# Altium schematic symbol library 7.1 - 模拟符号.SCHLIB: 83 symbols
Pins are listed as number, name and electrical type; pins without a type are passive.

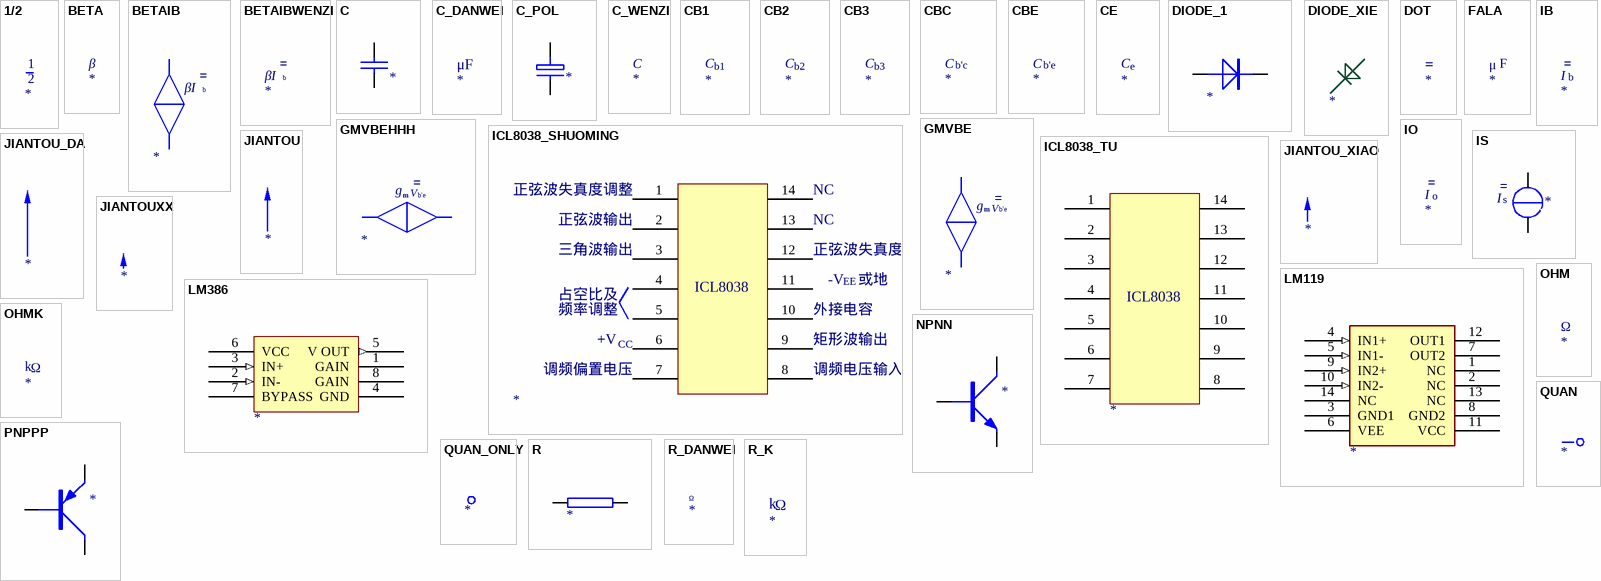
[diagram p0: symbols 1/2 to R_K]

## 1/2
designator ?
技术支持，联系售后: 封装库来自淘宝 ID：黄晶宝石; 联系卖家，免费查找封装: 唯一出售店铺网址https://shop463601444.taobao.com
text: 1; 2

## BETA
designator ?
联系卖家，免费查找封装: 唯一出售店铺网址https://shop463601444.taobao.com
text: β

## BETAIB
designator ?
联系卖家，免费查找封装: 唯一出售店铺网址https://shop463601444.taobao.com
text: βI; b

## BETAIBWENZI
designator ?
联系卖家，免费查找封装: 唯一出售店铺网址https://shop463601444.taobao.com
text: βI; b

## C
designator ?
联系卖家，免费查找封装: 唯一出售店铺网址https://shop463601444.taobao.com
pins: 1, 2

## C_DANWEI
designator ?
联系卖家，免费查找封装: 唯一出售店铺网址https://shop463601444.taobao.com
text: μF

## C_POL
designator ?
联系卖家，免费查找封装: 唯一出售店铺网址https://shop463601444.taobao.com
pins: 1, 2

## C_WENZI
designator ?
联系卖家，免费查找封装: 唯一出售店铺网址https://shop463601444.taobao.com
text: C

## CB1
designator ?
联系卖家，免费查找封装: 唯一出售店铺网址https://shop463601444.taobao.com
text: C; b1

## CB2
designator ?
联系卖家，免费查找封装: 唯一出售店铺网址https://shop463601444.taobao.com
text: C; b2

## CB3
designator ?
联系卖家，免费查找封装: 唯一出售店铺网址https://shop463601444.taobao.com
text: C; b3

## CBC
designator ?
联系卖家，免费查找封装: 唯一出售店铺网址https://shop463601444.taobao.com
text: C; b'c

## CBE
designator ?
联系卖家，免费查找封装: 唯一出售店铺网址https://shop463601444.taobao.com
text: C; b'e

## CE
designator ?
联系卖家，免费查找封装: 唯一出售店铺网址https://shop463601444.taobao.com
text: C; e

## DIODE_1
designator ?
联系卖家，免费查找封装: 唯一出售店铺网址https://shop463601444.taobao.com
pins: 1 A, 2 K

## DIODE_XIE
designator ?
联系卖家，免费查找封装: 唯一出售店铺网址https://shop463601444.taobao.com

## DOT
designator ?
联系卖家，免费查找封装: 唯一出售店铺网址https://shop463601444.taobao.com

## FALA
designator ?
联系卖家，免费查找封装: 唯一出售店铺网址https://shop463601444.taobao.com
text: F; μ

## GMVBE
designator ?
联系卖家，免费查找封装: 唯一出售店铺网址https://shop463601444.taobao.com
text: g; m; V; b'e

## GMVBEHHH
designator ?
联系卖家，免费查找封装: 唯一出售店铺网址https://shop463601444.taobao.com
text: g; m; V; b'e

## IB
designator ?
联系卖家，免费查找封装: 唯一出售店铺网址https://shop463601444.taobao.com
text: I; b

## ICL8038_SHUOMING
designator ?
联系卖家，免费查找封装: 唯一出售店铺网址https://shop463601444.taobao.com
pins: 1 74, 2 75, 3 76, 4 77, 5 78, 6 79, 7 80, 8 81, 9 82, 10 83, 11 84, 12 85, 13 86, 14 87
text: 正弦波失真度调整; NC; 正弦波输出; 三角波输出; -V; EE; 或地; ICL8038; 占空比及; 频率调整; 外接电容; +V; CC; 矩形波输出; 调频偏置电压; 调频电压输入端

## ICL8038_TU
designator ?
联系卖家，免费查找封装: 唯一出售店铺网址https://shop463601444.taobao.com
pins: 1 74, 2 75, 3 76, 4 77, 5 78, 6 79, 7 80, 8 81, 9 82, 10 83, 11 84, 12 85, 13 86, 14 87
text: ICL8038

## IO
designator ?
联系卖家，免费查找封装: 唯一出售店铺网址https://shop463601444.taobao.com
text: I; o

## IS
designator ?
联系卖家，免费查找封装: 唯一出售店铺网址https://shop463601444.taobao.com
pins: 1, 2
text: I; s

## JIANTOU
designator ?
联系卖家，免费查找封装: 唯一出售店铺网址https://shop463601444.taobao.com

## JIANTOU_DA
designator ?
联系卖家，免费查找封装: 唯一出售店铺网址https://shop463601444.taobao.com

## JIANTOU_XIAO
designator ?
联系卖家，免费查找封装: 唯一出售店铺网址https://shop463601444.taobao.com

## JIANTOUXX
designator ?
联系卖家，免费查找封装: 唯一出售店铺网址https://shop463601444.taobao.com

## LM119
designator ?
联系卖家，免费查找封装: 唯一出售店铺网址https://shop463601444.taobao.com
pins: 1 NC, 2 NC, 3 GND1 (power), 4 IN1+ (in), 5 IN1- (in), 6 VEE (power), 7 OUT2 (oc), 8 GND2 (power), 9 IN2+ (in), 10 IN2- (in), 11 VCC (power), 12 OUT1 (oc), 13 NC, 14 NC

## LM386
designator ?
联系卖家，免费查找封装: 唯一出售店铺网址https://shop463601444.taobao.com
pins: 1 GAIN, 2 IN- (in), 3 IN+ (in), 4 GND (power), 5 V OUT (out), 6 VCC, 7 BYPASS, 8 GAIN

## NPNN
designator ?
联系卖家，免费查找封装: 唯一出售店铺网址https://shop463601444.taobao.com
pins: 1 B, 2 C, 3 E

## OHM
designator ?
联系卖家，免费查找封装: 唯一出售店铺网址https://shop463601444.taobao.com
text: Ω

## OHMK
designator ?
联系卖家，免费查找封装: 唯一出售店铺网址https://shop463601444.taobao.com
text: k; Ω

## PNPPP
designator ?
联系卖家，免费查找封装: 唯一出售店铺网址https://shop463601444.taobao.com
pins: 1 B, 2 E, 3 C

## QUAN
designator ?
联系卖家，免费查找封装: 唯一出售店铺网址https://shop463601444.taobao.com

## QUAN_ONLY
designator ?
联系卖家，免费查找封装: 唯一出售店铺网址https://shop463601444.taobao.com

## R
designator ?
联系卖家，免费查找封装: 唯一出售店铺网址https://shop463601444.taobao.com
pins: 1, 2

## R_DANWEI
designator ?
联系卖家，免费查找封装: 唯一出售店铺网址https://shop463601444.taobao.com
text: Ω

## R_K
designator ?
联系卖家，免费查找封装: 唯一出售店铺网址https://shop463601444.taobao.com
text: k; Ω

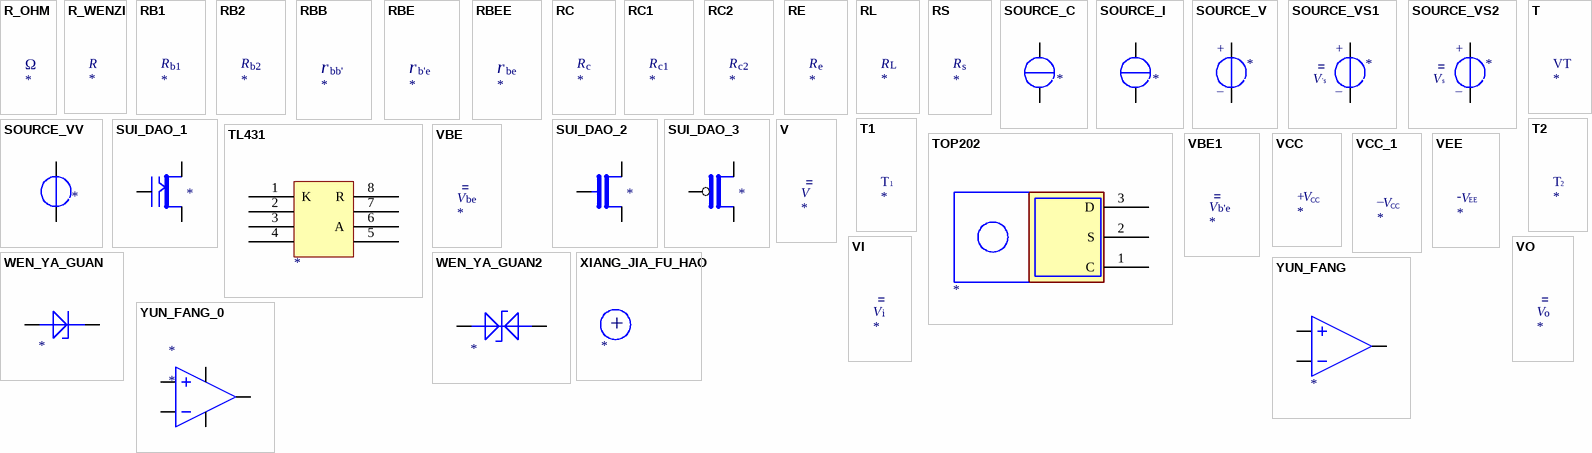
[diagram p1: symbols R_OHM to YUN_FANG_0]

## R_OHM
designator ?
联系卖家，免费查找封装: 唯一出售店铺网址https://shop463601444.taobao.com
text: Ω

## R_WENZI
designator ?
联系卖家，免费查找封装: 唯一出售店铺网址https://shop463601444.taobao.com
text: R

## RB1
designator ?
联系卖家，免费查找封装: 唯一出售店铺网址https://shop463601444.taobao.com
text: R; b1

## RB2
designator ?
联系卖家，免费查找封装: 唯一出售店铺网址https://shop463601444.taobao.com
text: R; b2

## RBB
designator ?
联系卖家，免费查找封装: 唯一出售店铺网址https://shop463601444.taobao.com
text: r; bb'

## RBE
designator ?
联系卖家，免费查找封装: 唯一出售店铺网址https://shop463601444.taobao.com
text: r; b'e

## RBEE
designator ?
联系卖家，免费查找封装: 唯一出售店铺网址https://shop463601444.taobao.com
text: r; be

## RC
designator ?
联系卖家，免费查找封装: 唯一出售店铺网址https://shop463601444.taobao.com
text: R; c

## RC1
designator ?
联系卖家，免费查找封装: 唯一出售店铺网址https://shop463601444.taobao.com
text: R; c1

## RC2
designator ?
联系卖家，免费查找封装: 唯一出售店铺网址https://shop463601444.taobao.com
text: R; c2

## RE
designator ?
联系卖家，免费查找封装: 唯一出售店铺网址https://shop463601444.taobao.com
text: R; e

## RL
designator ?
联系卖家，免费查找封装: 唯一出售店铺网址https://shop463601444.taobao.com
text: R; L

## RS
designator ?
联系卖家，免费查找封装: 唯一出售店铺网址https://shop463601444.taobao.com
text: R; s

## SOURCE_C
designator ?
联系卖家，免费查找封装: 唯一出售店铺网址https://shop463601444.taobao.com
pins: 1, 2

## SOURCE_I
designator ?
联系卖家，免费查找封装: 唯一出售店铺网址https://shop463601444.taobao.com
pins: 1, 2

## SOURCE_V
designator ?
联系卖家，免费查找封装: 唯一出售店铺网址https://shop463601444.taobao.com
pins: 1, 2
text: +; _

## SOURCE_VS1
designator ?
联系卖家，免费查找封装: 唯一出售店铺网址https://shop463601444.taobao.com
pins: 1, 2
text: +; V; 's; _

## SOURCE_VS2
designator ?
联系卖家，免费查找封装: 唯一出售店铺网址https://shop463601444.taobao.com
pins: 1, 2
text: +; V; s; _

## SOURCE_VV
designator ?
联系卖家，免费查找封装: 唯一出售店铺网址https://shop463601444.taobao.com
pins: 1, 2

## SUI_DAO_1
designator ?
联系卖家，免费查找封装: 唯一出售店铺网址https://shop463601444.taobao.com
pins: 67, 68, 69

## SUI_DAO_2
designator ?
联系卖家，免费查找封装: 唯一出售店铺网址https://shop463601444.taobao.com
pins: 67, 68, 69

## SUI_DAO_3
designator ?
联系卖家，免费查找封装: 唯一出售店铺网址https://shop463601444.taobao.com
pins: 67, 68, 69

## T
designator ?
联系卖家，免费查找封装: 唯一出售店铺网址https://shop463601444.taobao.com
text: VT

## T1
designator ?
联系卖家，免费查找封装: 唯一出售店铺网址https://shop463601444.taobao.com
text: T; 1

## T2
designator ?
联系卖家，免费查找封装: 唯一出售店铺网址https://shop463601444.taobao.com
text: T; 2

## TL431
designator ?
联系卖家，免费查找封装: 唯一出售店铺网址https://shop463601444.taobao.com
pins: 1 K, 2, 3, 4, 5, 6 A, 7, 8 R

## TOP202
designator ?
联系卖家，免费查找封装: 唯一出售店铺网址https://shop463601444.taobao.com
pins: 1 C, 2 S, 3 D

## V
designator ?
联系卖家，免费查找封装: 唯一出售店铺网址https://shop463601444.taobao.com

## VBE
designator ?
联系卖家，免费查找封装: 唯一出售店铺网址https://shop463601444.taobao.com
text: V; be

## VBE1
designator ?
联系卖家，免费查找封装: 唯一出售店铺网址https://shop463601444.taobao.com
text: V; b'e

## VCC
designator ?
联系卖家，免费查找封装: 唯一出售店铺网址https://shop463601444.taobao.com
text: +; V; CC

## VCC_1
designator ?
联系卖家，免费查找封装: 唯一出售店铺网址https://shop463601444.taobao.com
text: _; V; CC

## VEE
designator ?
联系卖家，免费查找封装: 唯一出售店铺网址https://shop463601444.taobao.com
text: -; V; EE

## VI
designator ?
联系卖家，免费查找封装: 唯一出售店铺网址https://shop463601444.taobao.com
text: V; i

## VO
designator ?
联系卖家，免费查找封装: 唯一出售店铺网址https://shop463601444.taobao.com
text: V; o

## WEN_YA_GUAN
designator ?
联系卖家，免费查找封装: 唯一出售店铺网址https://shop463601444.taobao.com
pins: 1 A, 2 K

## WEN_YA_GUAN2
designator ?
联系卖家，免费查找封装: 唯一出售店铺网址https://shop463601444.taobao.com
pins: 1 A, 2 K

## XIANG_JIA_FU_HAO
designator ?
联系卖家，免费查找封装: 唯一出售店铺网址https://shop463601444.taobao.com
text: +

## YUN_FANG
designator ?
联系卖家，免费查找封装: 唯一出售店铺网址https://shop463601444.taobao.com
pins: 1 IN-, 2 IN+, 3 OUT

## YUN_FANG_0
designator *
pins: 1 IN-, 2 IN+, 3 OUT, 4 VCC (power), 5 VDD (power)

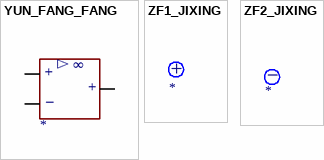
[diagram p2: symbols YUN_FANG_FANG to ZF2_JIXING]

## YUN_FANG_FANG
designator ?
联系卖家，免费查找封装: 唯一出售店铺网址https://shop463601444.taobao.com
pins: 42, 43, 44
text: △; ∞; +; _

## ZF1_JIXING
designator ?
联系卖家，免费查找封装: 唯一出售店铺网址https://shop463601444.taobao.com
text: +

## ZF2_JIXING
designator ?
联系卖家，免费查找封装: 唯一出售店铺网址https://shop463601444.taobao.com
text: _